# Altium schematic symbol library AH9248.SchLib: 1 symbol
Pins are listed as number, name and electrical type; pins without a type are passive.

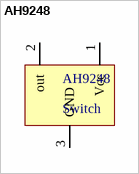
[diagram p0: symbol AH9248]

## AH9248
designator AH9248, comment Switch
Hall effect switch
footprint AH9248 (Hall effect switch)
footprint AH9247DN
pins: 1 Vcc, 2 out, 3 GND